# EAGLE library part SWITCH-SLIDE-CMS2402B (library LITTLEBITS140826)
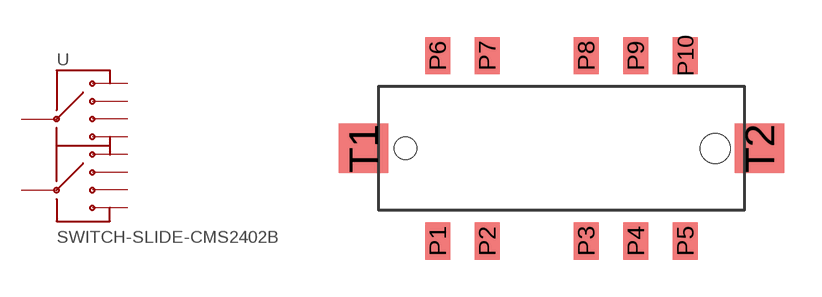
[diagram p74: symbol with the pads of SWITCH-SLIDE-DP4T-CMS2402B; footprint SWITCH-SLIDE-DP4T-CMS2402B]

Designator prefix -

## SWITCH-SLIDE-CMS2402B (MFG: Copal Electronics; MPN: CMS-2402B)  [SWITCH-SLIDE-DP4T-CMS2402B]
P1  8
P2  7
P3  COM2
P4  6
P5  5
P6  4
P7  3
P8  COM1
P9  2
P10  1

## Footprint SWITCH-SLIDE-DP4T-CMS2402B (pad centres in mm)
Copal Electronics SP4T Slide Switch SMD MPN: CMS-2402B
smd 1 x 1.5: P1 -5,-3.75; P2 -3,-3.75; P3 1,-3.75; P4 3,-3.75; P5 5,-3.75; P6 -5,3.75; P7 -3,3.75; P8 1,3.75; P9 3,3.75; P10 5,3.75
smd 2 x 2: T1 -8,0; T2 8,0
hole 0.9 at -6.3,0
hole 1.2 at 6.2,0